# EAGLE library part KMX63-1055 (library KMX63-1055)
KIONIX-KMX63-1055-MEMSACCELEROMETER,8G/16G/32G,LGA-16 SOURCE:Datasheet <https://www.mouser.in/datasheet/2/348/KMX63-1055-Specifications-Rev-1.0-1591586.pdf>
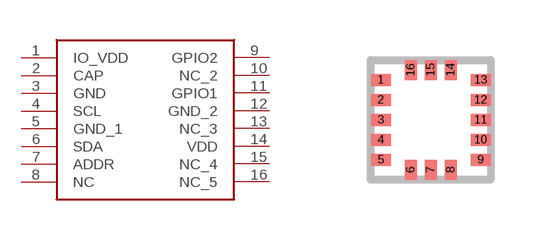
[diagram p0: symbol with the pads of KMX63-1055; footprint KMX63-1055]

Designator prefix KIONIX-KMX63-1055-MEMSACCELEROMETER,8G/16G/32G,LGA-16

## KMX63-1055 (DESCRIPTION: KIONIX - KMX63-1055- MEMS ACCELEROMETER, 8G/16G/32G, LGA-16; HEIGHT: mm; MANUFACTURER_NAME: KIONIX; MANUFACTURER_PART_NO: KMX63-1055)  [KMX63-1055]
1  IO_VDD
2  CAP
3  GND
4  SCL
5  GND_1
6  SDA
7  ADDR
8  NC
9  GPIO2
10  NC_2
11  GPIO1
12  GND_2
13  NC_3
14  VDD
15  NC_4
16  NC_5

## Footprint KMX63-1055 (pad centres in mm)
3x3 LGA
smd 0.5 x 0.3: 1 -1.25,1; 2 -1.25,0.5; 3 -1.25,0; 4 -1.25,-0.5; 5 -1.25,-1; 9 1.25,-1; 10 1.25,-0.5; 11 1.25,0; 12 1.25,0.5; 13 1.25,1
smd 0.3 x 0.5: 6 -0.5,-1.25; 7 0,-1.25; 8 0.5,-1.25; 14 0.5,1.25; 15 0,1.25; 16 -0.5,1.25